# Altium schematic symbol library 22052051.SchLib: 1 symbol
Pins are listed as number, name and electrical type; pins without a type are passive.

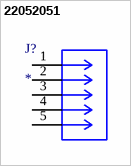
[diagram p0: symbol 22052051]

## 22052051
designator J?
MF: {'manufacturer': u'Molex'}; MP: 22052051; Package: None; Price: None; Value: *; Availability: Unavailable
footprint CONN_A-4094-05A_MOL
pins: 1, 2, 3, 4, 5